# Altium footprint library FS44B0.PcbLib: 40 footprints (part 1 of 3)
Each footprint in its own frame and in the unit in brackets; x right, y up, seen from the top. Pads: shape width x height; smd on the part's side, far side on the other; paste and mask are expansions set on the pad; w line width, h text height; cw(c..) or ccw(c..) is an arc to the next point about the centre after c.
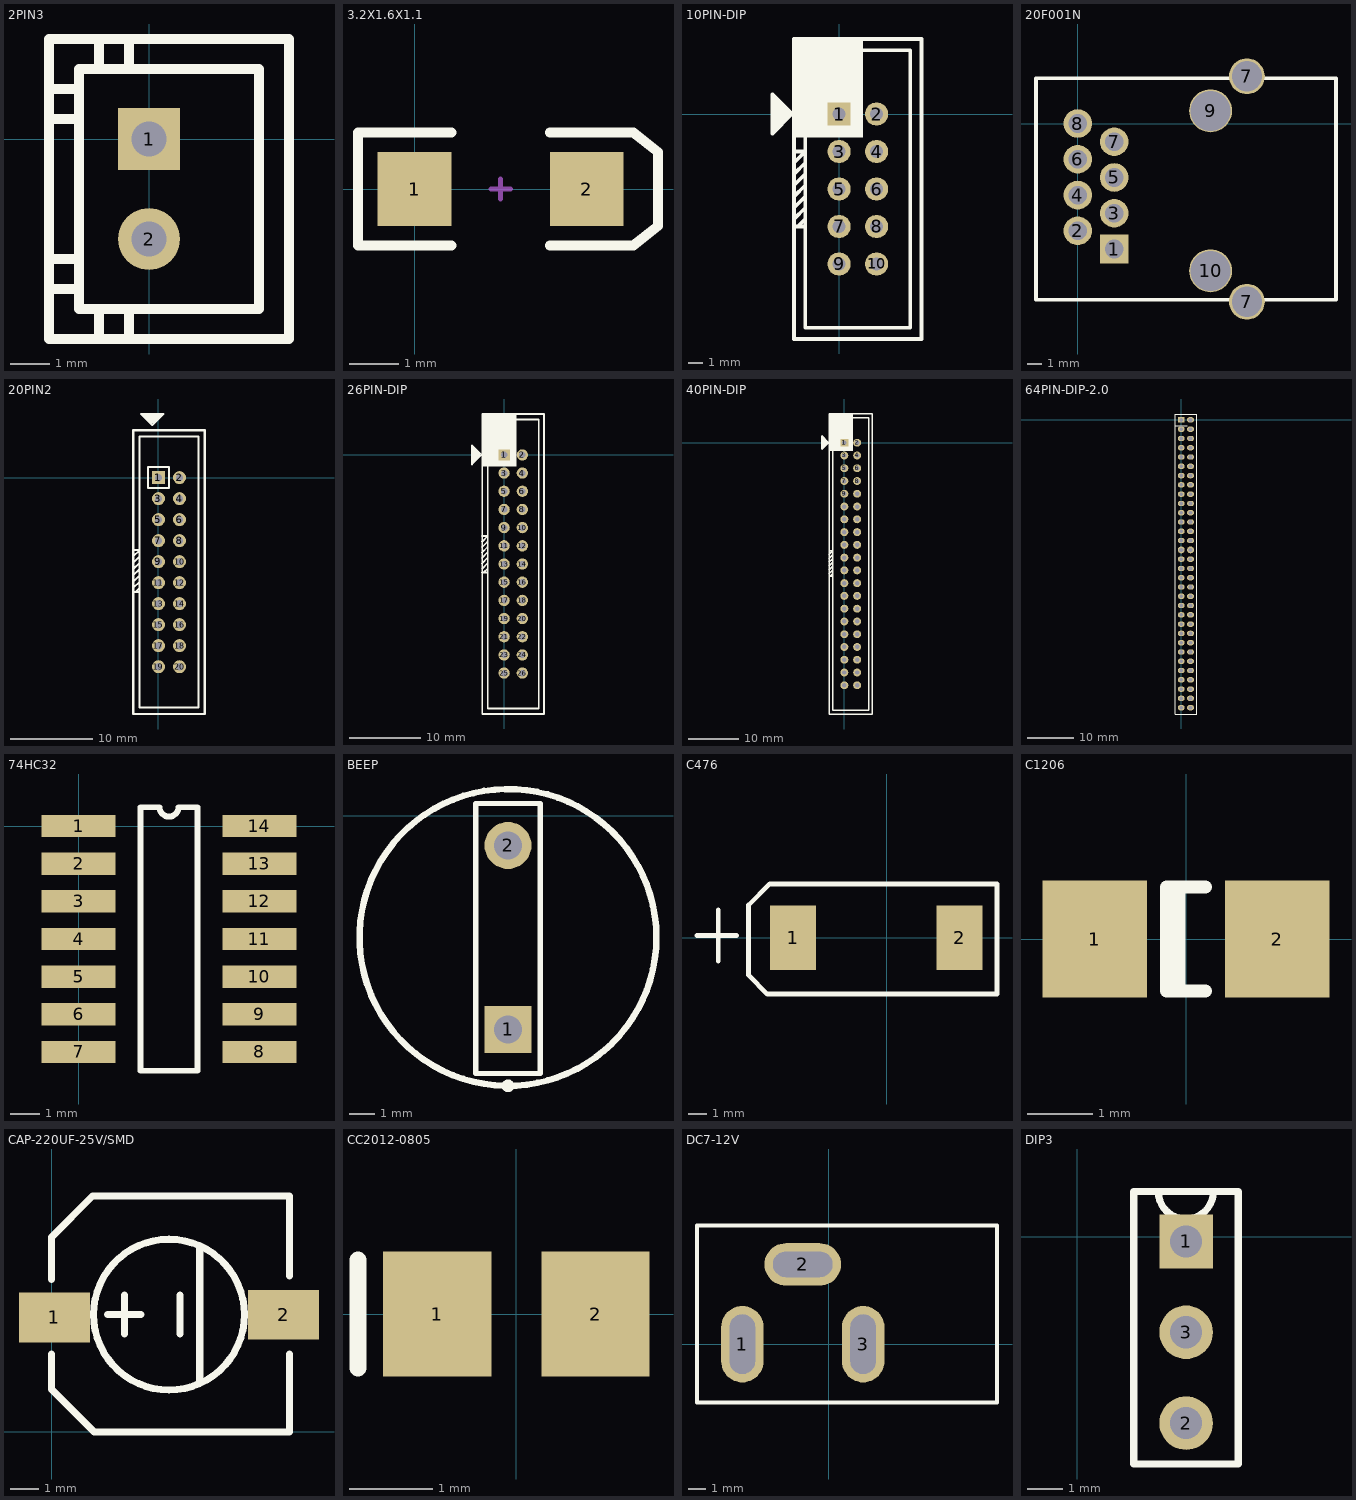
[diagram p0: the footprints below, top view; thin cyan lines are the x and y axes]

## 2PIN3 [mil]
pads (2):
  rect 62x62 hole 35: 1(0,0)
  round 62 hole 35: 2(0,-100)
Top Overlay:
  lines w10: -100,-150 -70,-150 ; -100,-120 -70,-120 ; -100,20 -70,20 ; -100,50 -70,50 ; -50,-200 -50,-170 ; -50,70 -50,100 ; -20,-200 -20,-170 ; -20,70 -20,100 ; -100,-200 140,-200 140,100 0,100 -100,100 -100,-200 ; -70,-170 110,-170 110,70 -70,70 -70,-170

## 3.2X1.6X1.1 [mm] "SMT LED; 2 Flat Leads"
pads (2):
  rect 1.5x1.5 smd: 1(0,0) 2(3.5,0)
Top Overlay:
  lines w0.2: 0.75,-1.15 -1.15,-1.15 -1.15,1.15 0.75,1.15 ; 2.75,-1.15 4.45,-1.15 4.95,-0.75 4.95,0.75 4.45,1.15 2.75,1.15
Mechanical 1:
  lines w0.1: 1.55,0 1.95,0 ; 1.75,-0.2 1.75,0.2

## 10PIN-DIP [mil]
pads (10):
  rect 62x62 hole 35: 1(0,0)
  round 62 hole 35: 2(100,0) 3(0,-100) 4(100,-100) 5(0,-200) 6(100,-200) 7(0,-300) 8(100,-300) 9(0,-400) 10(100,-400)
Top Overlay:
  region: -120,-62.2 63.78,-62.2 63.78,200 -120,200
  lines w10: -177.56,-19.68 -177.56,-51.97 -177.17,-52.36 -177.17,-51.97 -124.57,0.63 -124.57,0.79 -124.57,-0.39 -124.57,-0.24 -177.56,52.76 -177.56,-35.04 -170.2,-38.46 -170.2,45.4 ; -161.49,36.68 -161.49,-32.21 -161.42,-32.28 ; -153.15,-24.8 -152.66,-24.31 -152.66,27.86 ; -144.06,-12.17 -144.06,19.26 ; -136.72,-5.23 -136.72,11.92 ; -120,-280 -90,-250 ; -120,-250 -90,-220 ; -120,-220 -90,-190 ; -120,-190 -90,-160 ; -120,-160 -90,-130 ; -120,-130 -90,-100 -120,-100 ; -90,-300 -120,-300 -110,-300 -90,-280 ; -120,-600 -120,-500 -120,200 220,200 220,-500 220,-600 -120,-600 ; -90,-570 -90,170 190,170 190,-570 -90,-570 ; -60,-50 50,-50 50,60 -60,60 -60,-50

## 20F001N [mm]
pads (12):
  rect 2x2 hole 1.3: 1(2.54,-8.763)
  round 2 hole 1.3: 2(0,-7.493) 3(2.54,-6.265) 4(0,-4.995) 5(2.54,-3.768) 6(0,-2.498) 7(2.54,-1.27) 8(0,0)
  round 2.5 hole 2.1: 7(11.811,-12.446) 7(11.811,3.302)
  round 3 hole 2.8: 9(9.271,0.889) 10(9.271,-10.287)
Top Overlay:
  lines w0.254: -2.921,-12.319 -2.921,3.175 18.034,3.175 18.034,-12.319 -2.921,-12.319

## 20PIN2 [mil]
pads (20):
  rect 62x62 hole 35: 1(0,0)
  round 62 hole 35: 2(100,0) 3(0,-100) 4(100,-100) 5(0,-200) 6(100,-200) 7(0,-300) 8(100,-300) 9(0,-400) 10(100,-400) 11(0,-500) 12(100,-500) 13(0,-600) 14(100,-600) 15(0,-700) 16(100,-700) 17(0,-800) 18(100,-800) 19(0,-900) 20(100,-900)
Top Overlay:
  lines w10: -120,-525 -90,-495 ; -120,-495 -90,-465 ; -120,-465 -90,-435 ; -120,-435 -90,-405 ; -120,-405 -90,-375 ; -120,-375 -90,-345 -120,-345 ; -90,-545 -120,-545 -110,-545 -90,-525 ; -62.28,286.42 -62.21,286.49 6.68,286.49 ; -54.8,278.15 -54.31,277.66 -2.14,277.66 ; -49.68,302.56 -81.97,302.56 -82.36,302.17 -81.97,302.17 -29.37,249.57 -29.21,249.57 -30.39,249.57 -30.24,249.57 22.76,302.56 -65.04,302.56 -68.46,295.2 15.4,295.2 ; -42.17,269.06 -10.74,269.06 ; -35.23,261.72 -18.08,261.72 ; -120,-1125 220,-1125 220,225 0,225 -120,225 -120,-1125 ; -90,-1095 190,-1095 190,195 -90,195 -90,-1095 ; -50,-50 -50,50 50,50 50,-50 -50,-50

## 26PIN-DIP [mil]
pads (26):
  rect 62x62 hole 35: 1(0,0)
  round 62 hole 35: 2(100,0) 3(0,-100) 4(100,-100) 5(0,-200) 6(100,-200) 7(0,-300) 8(100,-300) 9(0,-400) 10(100,-400) 11(0,-500) 12(100,-500) 13(0,-600) 14(100,-600) 15(0,-700) 16(100,-700) 17(0,-800) 18(100,-800) 19(0,-900) 20(100,-900) 21(0,-1000) 22(100,-1000) 23(0,-1100) 24(100,-1100) 25(0,-1200) 26(100,-1200)
Top Overlay:
  region: -120,-63.39 66.14,-63.39 66.14,225 -120,225
  lines w10: -177.56,-19.68 -177.56,-51.97 -177.17,-52.36 -177.17,-51.97 -124.57,0.63 -124.57,0.79 -124.57,-0.39 -124.57,-0.24 -177.56,52.76 -177.56,-35.04 -170.2,-38.46 -170.2,45.4 ; -161.49,36.68 -161.49,-32.21 -161.42,-32.28 ; -153.15,-24.8 -152.66,-24.31 -152.66,27.86 ; -144.06,-12.17 -144.06,19.26 ; -136.72,-5.23 -136.72,11.92 ; -121.45,-626.45 -91.45,-596.45 ; -121.45,-596.45 -91.45,-566.45 ; -121.45,-566.45 -91.45,-536.45 ; -121.45,-536.45 -91.45,-506.45 ; -121.45,-506.45 -91.45,-476.45 ; -121.45,-476.45 -91.45,-446.45 -121.45,-446.45 ; -91.45,-646.45 -121.45,-646.45 -111.45,-646.45 -91.45,-626.45 ; -120,-1425 220,-1425 220,-1225 220,-1125 220,225 0,225 -120,225 -120,-1125 -120,-1225 -120,-1425 ; -90,-1395 190,-1395 190,-1195 190,-1095 190,195 -90,195 -90,-1095 -90,-1195 -90,-1395 ; -50,-50 50,-50 50,50 -50,50 -50,-50

## 40PIN-DIP [mil]
pads (40):
  rect 62x62 hole 35: 1(0,0)
  round 62 hole 35: 2(100,0) 3(0,-100) 4(100,-100) 5(0,-200) 6(100,-200) 7(0,-300) 8(100,-300) 9(0,-400) 10(100,-400) 11(0,-500) 12(100,-500) 13(0,-600) 14(100,-600) 15(0,-700) 16(100,-700) 17(0,-800) 18(100,-800) 19(0,-900) 20(100,-900) 21(0,-1000) 22(100,-1000) 23(0,-1100) 24(100,-1100) 25(0,-1200) 26(100,-1200) 27(0,-1300) 28(100,-1300) 29(0,-1400) 30(100,-1400) 31(0,-1500) 32(100,-1500) 33(0,-1600) 34(100,-1600) 35(0,-1700) 36(100,-1700) 37(0,-1800) 38(100,-1800) 39(0,-1900) 40(100,-1900)
Top Overlay:
  region: -120,-63.39 66.14,-63.39 66.14,225 -120,225
  lines w10: -178.35,-19.68 -178.35,-51.97 -177.95,-52.36 -177.95,-51.97 -125.35,0.63 -125.35,0.79 -125.35,-0.39 -125.35,-0.24 -178.35,52.76 -178.35,-35.04 -170.99,-38.46 -170.99,45.4 ; -162.27,36.68 -162.27,-32.21 -162.2,-32.28 ; -153.94,-24.8 -153.45,-24.31 -153.45,27.86 ; -144.85,-12.17 -144.85,19.26 ; -137.51,-5.23 -137.51,11.92 ; -120.33,-1027 -90.33,-997 ; -120.33,-997 -90.33,-967 ; -120.33,-967 -90.33,-937 ; -120.33,-937 -90.33,-907 ; -120.33,-907 -90.33,-877 ; -120.33,-877 -90.33,-847 -120.33,-847 ; -90.33,-1047 -120.33,-1047 -110.33,-1047 -90.33,-1027 ; -120,-2125 -120,-2120 -120,-1125 -120,225 0,225 220,225 220,-1125 220,-2125 -120,-2125 ; -90,-2095 -90,-1095 -90,195 190,195 190,-1095 190,-2095 -90,-2095 ; -50,-50 -50,50 50,50 50,-50 -50,-50

## 64PIN-DIP-2.0 [mm]
pads (64):
  rect 1.5x1.15 hole 0.8: 1(0,0)
  oval 1.5x1.15 hole 0.8: 2(2,0) 3(0,-2) 4(2,-2) 5(0,-4) 6(2,-4) 7(0,-6) 8(2,-6) 9(0,-8) 10(2,-8) 11(0,-10) 12(2,-10) 13(0,-12) 14(2,-12) 15(0,-14) 16(2,-14) 17(0,-16) 18(2,-16) 19(0,-18) 20(2,-18) 21(0,-20) 22(2,-20) 23(0,-22) 24(2,-22) 25(0,-24) 26(2,-24) 27(0,-26) 28(2,-26) 31(0,-30) 32(2,-30) 33(0,-32) 34(2,-32) 35(0,-34) 36(2,-34) 37(0,-36) 38(2,-36) 39(0,-38) 40(2,-38) 41(0,-40) 42(2,-40) 43(0,-42) 44(2,-42) 45(0,-44) 46(2,-44) 47(0,-46) 48(2,-46) 49(0,-48) 50(2,-48) 51(0,-50) 52(2,-50) 53(0,-52) 54(2,-52) 55(0,-54) 56(2,-54) 57(0,-56) 58(2,-56) 59(0,-58) 60(2,-58) 61(0,-60) 62(2,-60) 63(0,-62) 64(2,-62)
  round 1.5 hole 0.889: 29(0,-28) 30(2,-28)
Top Overlay:
  lines w0.254: -1.27,-1.27 1.27,-1.27 ; -1.27,-63.362 3.319,-63.362 3.319,1.27 -1.27,1.27 -1.27,-63.362

## 74HC32 [mm]
pads (14):
  rect 2.5x0.75 smd: 1(0,0) 2(0,-1.27) 3(0,-2.54) 4(0,-3.81) 5(0,-5.08) 6(0,-6.35) 7(0,-7.62) 8(6.1,-7.62) 9(6.1,-6.35) 10(6.1,-5.08) 11(6.1,-3.81) 12(6.1,-2.54) 13(6.1,-1.27) 14(6.1,0)
Top Overlay:
  lines w0.2: 2.085,-8.255 4.015,-8.255 4.015,0.635 3.367,0.635 cw(c3.05,0.635) 2.732,0.635 2.085,0.635 2.085,-8.255

## BEEP [mm]
height 9
pads (2):
  rect 1.85x1.85 hole 1.1: 1(14.213,-8.409)
  round 1.85 hole 1.1: 2(14.213,-1.17)
Top Overlay:
  circle w0.254: c14.213,-4.79 r5.842
  circle w0.25: c14.214,-10.63 r0.125
  lines w0.2: 12.943,-10.149 15.483,-10.149 15.483,-1.589 15.483,0.481 12.943,0.481 12.943,-1.589 12.943,-10.149

## C476 [mm]
pads (2):
  rect 2.5x3.5 smd: 1(-5.08,0) 2(3.937,0)
Top Overlay:
  lines w0.254: -10.287,0.127 -8.128,0.127 ; -9.144,-1.27 -9.144,1.524 ; -7.493,-2.032 -7.493,1.778 -6.35,2.921 5.969,2.921 5.969,-3.048 -6.477,-3.048 -7.493,-2.032

## C1206 [mm] "Chip Capacitor; Body 3.2 x 1.6 mm (LxW typ)"
height 1.35
pads (2):
  rect 1.6x1.8 smd: 1(-1.4,0) 2(1.4,0)
Top Overlay:
  lines w0.2: -0.11,-0.8 -0.11,0.8 ; 0.3,-0.8 -0.3,-0.8 -0.3,0.8 0.3,0.8

## CAP-220UF-25V/SMD [mil]
pads (2):
  rect 100x70 smd: 1(3.94,161.42) 2(326.77,165.35)
Top Overlay:
  circle w10: c165.35,165.35 r106.3
  lines w10: 0,110 0,60 60,0 335,0 335,110 ; 0,215 0,275 57.5,332.5 335,332.5 335,220 ; 78.74,165.35 125.98,165.35 ; 102.36,137.8 102.36,192.91 ; 181.1,137.8 181.1,192.91 ; 208.66,70.87 208.66,259.84

## CC2012-0805 [mm] "Chip Capacitor; Body 2.0 x 1.2 mm (LxW typ)"
height 1.1
pads (2):
  rect 1.3x1.5 smd: 1(-0.95,0) 2(0.95,0)
Top Overlay:
  lines w0.2: -1.9,-0.65 -1.9,0.65

## DC7-12V [mm]
pads (3):
  oval 2.5x4.5 hole 1.5 slot 3.5 at 90 deg: 1(-5.08,0) 3(2.032,0)
  oval 4.5x2.5 hole 1.5 slot 3.5 at 0 deg: 2(-1.524,4.699)
Top Overlay:
  lines w0.254: -7.747,-3.429 9.906,-3.429 9.906,6.985 -7.747,6.985 -7.747,-3.429

## DIP3 [mm]
pads (3):
  rect 1.5x1.5 hole 0.9: 1(3.048,-0.127)
  round 1.5 hole 0.9: 2(3.048,-5.207) 3(3.048,-2.667)
Top Overlay:
  lines w0.2: 2.271,1.27 ccw(c3.041,1.27) 3.81,1.27 ; 4.445,-6.35 1.585,-6.35 1.585,1.27 4.445,1.27 ; 4.506,-6.35 4.506,1.27